# EAGLE library part SR2511F-3 (library SR2511)
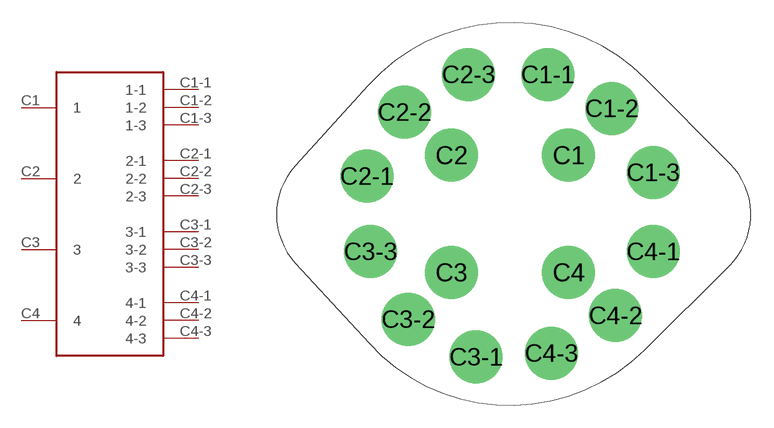
[diagram p0: symbol with the pads of SR2511F-3; footprint SR2511F-3]

Designator prefix -

## SR2511F-3  [SR2511F-3]
C1  1
C1-1  1-1
C1-2  1-2
C1-3  1-3
C2  2
C2-1  2-1
C2-2  2-2
C2-3  2-3
C3  3
C3-1  3-1
C3-2  3-2
C3-3  3-3
C4  4
C4-1  4-1
C4-2  4-2
C4-3  4-3

## Footprint SR2511F-3 (pad centres in mm)
drill 2.5: C1 3.889,3.889; C1-1 2.5,9.25; C1-2 6.75,7; C1-3 9.5,2.75; C2 -3.889,3.889; C2-1 -9.5,2.5; C2-2 -7,6.75; C2-3 -2.75,9.25; C3 -3.889,-3.889; C3-1 -2.25,-9.5; C3-2 -6.75,-7; C3-3 -9.25,-2.5; C4 3.889,-3.889; C4-1 9.5,-2.5; C4-2 7,-6.75; C4-3 2.75,-9.25